# Altium schematic symbol library B3F-4055S.SchLib: 1 symbol
Pins are listed as number, name and electrical type; pins without a type are passive.

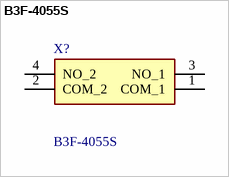
[diagram p0: symbol B3F-4055S]

## B3F-4055S
designator X?
Tactile Switches 12X12 PROJ 7.3MM BTN TACTILE; Manufacturer_Name: Omron Electronics; Geometry.Height: 7.5mm; Mouser Part Number: 653-B3F-4055S; Mouser Price/Stock: https://www.mouser.co.uk/ProductDetail/Omron-Electronics/B3F-4055S?qs=nUVjeaT6QSw5AU9Uc2mCbQ%3D%3D; Manufacturer_Part_Number: B3F-4055S; Datasheet Link: https://media.digikey.com/pdf/Data%20Sheets/Omron%20PDFs/B3F.pdf
footprint B3F4055S
pins: 1 COM_1, 2 COM_2, 3 NO_1, 4 NO_2